# Altium schematic symbol library SCH - ARM CORTEX - STM STM32F107R(B-C)Tx.SchLib: 1 symbol
Pins are listed as number, name and electrical type; pins without a type are passive.

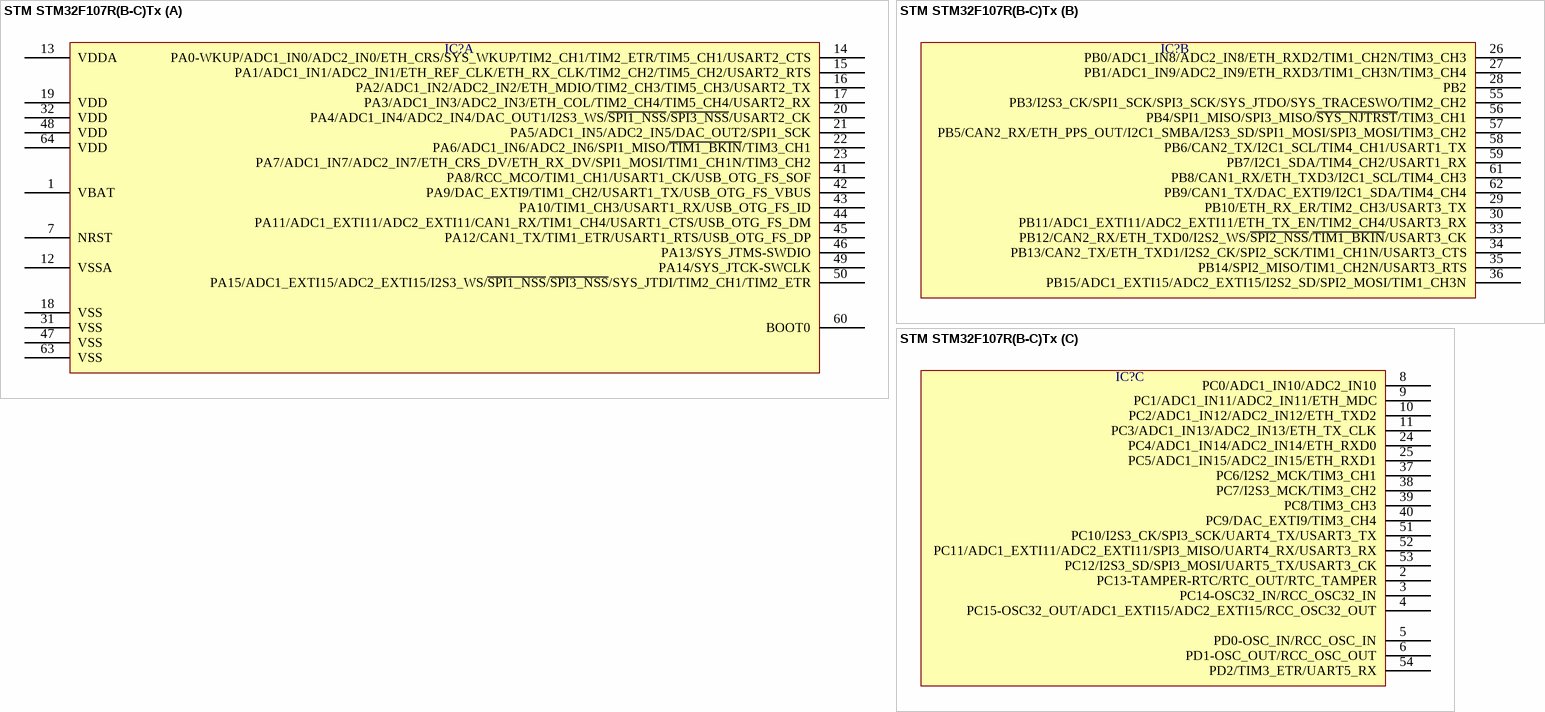
[diagram p0: symbol STM STM32F107R(B-C)Tx]

## STM STM32F107R(B-C)Tx
designator IC?  (value not drawn)
part A pins: 1 VBAT, 7 NRST, 12 VSSA, 13 VDDA, 14 PA0-WKUP/ADC1_IN0/ADC2_IN0/ETH_CRS/SYS_WKUP/TIM2_CH1/TIM2_ETR/TIM5_CH1/USART2_CTS, 15 PA1/ADC1_IN1/ADC2_IN1/ETH_REF_CLK/ETH_RX_CLK/TIM2_CH2/TIM5_CH2/USART2_RTS, 16 PA2/ADC1_IN2/ADC2_IN2/ETH_MDIO/TIM2_CH3/TIM5_CH3/USART2_TX, 17 PA3/ADC1_IN3/ADC2_IN3/ETH_COL/TIM2_CH4/TIM5_CH4/USART2_RX, 18 VSS, 19 VDD, 20 PA4/ADC1_IN4/ADC2_IN4/DAC_OUT1/I2S3_WS/~{SPI1_NSS}/~{SPI3_NSS}/USART2_CK, 21 PA5/ADC1_IN5/ADC2_IN5/DAC_OUT2/SPI1_SCK, 22 PA6/ADC1_IN6/ADC2_IN6/SPI1_MISO/~{TIM1_BKIN}/TIM3_CH1, 23 PA7/ADC1_IN7/ADC2_IN7/ETH_CRS_DV/ETH_RX_DV/SPI1_MOSI/TIM1_CH1N/TIM3_CH2, 31 VSS, 32 VDD, 41 PA8/RCC_MCO/TIM1_CH1/USART1_CK/USB_OTG_FS_SOF, 42 PA9/DAC_EXTI9/TIM1_CH2/USART1_TX/USB_OTG_FS_VBUS, 43 PA10/TIM1_CH3/USART1_RX/USB_OTG_FS_ID, 44 PA11/ADC1_EXTI11/ADC2_EXTI11/CAN1_RX/TIM1_CH4/USART1_CTS/USB_OTG_FS_DM, 45 PA12/CAN1_TX/TIM1_ETR/USART1_RTS/USB_OTG_FS_DP, 46 PA13/SYS_JTMS-SWDIO, 47 VSS, 48 VDD, 49 PA14/SYS_JTCK-SWCLK, 50 PA15/ADC1_EXTI15/ADC2_EXTI15/I2S3_WS/~{SPI1_NSS}/~{SPI3_NSS}/SYS_JTDI/TIM2_CH1/TIM2_ETR, 60 BOOT0, 63 VSS, 64 VDD
part B pins: 26 PB0/ADC1_IN8/ADC2_IN8/ETH_RXD2/TIM1_CH2N/TIM3_CH3, 27 PB1/ADC1_IN9/ADC2_IN9/ETH_RXD3/TIM1_CH3N/TIM3_CH4, 28 PB2, 29 PB10/ETH_RX_ER/TIM2_CH3/USART3_TX, 30 PB11/ADC1_EXTI11/ADC2_EXTI11/ETH_TX_EN/TIM2_CH4/USART3_RX, 33 PB12/CAN2_RX/ETH_TXD0/I2S2_WS/~{SPI2_NSS}/~{TIM1_BKIN}/USART3_CK, 34 PB13/CAN2_TX/ETH_TXD1/I2S2_CK/SPI2_SCK/TIM1_CH1N/USART3_CTS, 35 PB14/SPI2_MISO/TIM1_CH2N/USART3_RTS, 36 PB15/ADC1_EXTI15/ADC2_EXTI15/I2S2_SD/SPI2_MOSI/TIM1_CH3N, 55 PB3/I2S3_CK/SPI1_SCK/SPI3_SCK/SYS_JTDO/SYS_TRACESWO/TIM2_CH2, 56 PB4/SPI1_MISO/SPI3_MISO/~{SYS_NJTRST}/TIM3_CH1, 57 PB5/CAN2_RX/ETH_PPS_OUT/I2C1_SMBA/I2S3_SD/SPI1_MOSI/SPI3_MOSI/TIM3_CH2, 58 PB6/CAN2_TX/I2C1_SCL/TIM4_CH1/USART1_TX, 59 PB7/I2C1_SDA/TIM4_CH2/USART1_RX, 61 PB8/CAN1_RX/ETH_TXD3/I2C1_SCL/TIM4_CH3, 62 PB9/CAN1_TX/DAC_EXTI9/I2C1_SDA/TIM4_CH4
part C pins: 2 PC13-TAMPER-RTC/RTC_OUT/RTC_TAMPER, 3 PC14-OSC32_IN/RCC_OSC32_IN, 4 PC15-OSC32_OUT/ADC1_EXTI15/ADC2_EXTI15/RCC_OSC32_OUT, 5 PD0-OSC_IN/RCC_OSC_IN, 6 PD1-OSC_OUT/RCC_OSC_OUT, 8 PC0/ADC1_IN10/ADC2_IN10, 9 PC1/ADC1_IN11/ADC2_IN11/ETH_MDC, 10 PC2/ADC1_IN12/ADC2_IN12/ETH_TXD2, 11 PC3/ADC1_IN13/ADC2_IN13/ETH_TX_CLK, 24 PC4/ADC1_IN14/ADC2_IN14/ETH_RXD0, 25 PC5/ADC1_IN15/ADC2_IN15/ETH_RXD1, 37 PC6/I2S2_MCK/TIM3_CH1, 38 PC7/I2S3_MCK/TIM3_CH2, 39 PC8/TIM3_CH3, 40 PC9/DAC_EXTI9/TIM3_CH4, 51 PC10/I2S3_CK/SPI3_SCK/UART4_TX/USART3_TX, 52 PC11/ADC1_EXTI11/ADC2_EXTI11/SPI3_MISO/UART4_RX/USART3_RX, 53 PC12/I2S3_SD/SPI3_MOSI/UART5_TX/USART3_CK, 54 PD2/TIM3_ETR/UART5_RX